# Altium footprint library 电池座.PcbLib: 1 footprints
Each footprint in its own frame and in the unit in brackets; x right, y up, seen from the top. Pads: shape width x height; smd on the part's side, far side on the other; paste and mask are expansions set on the pad; w line width, h text height; cw(c..) or ccw(c..) is an arc to the next point about the centre after c.
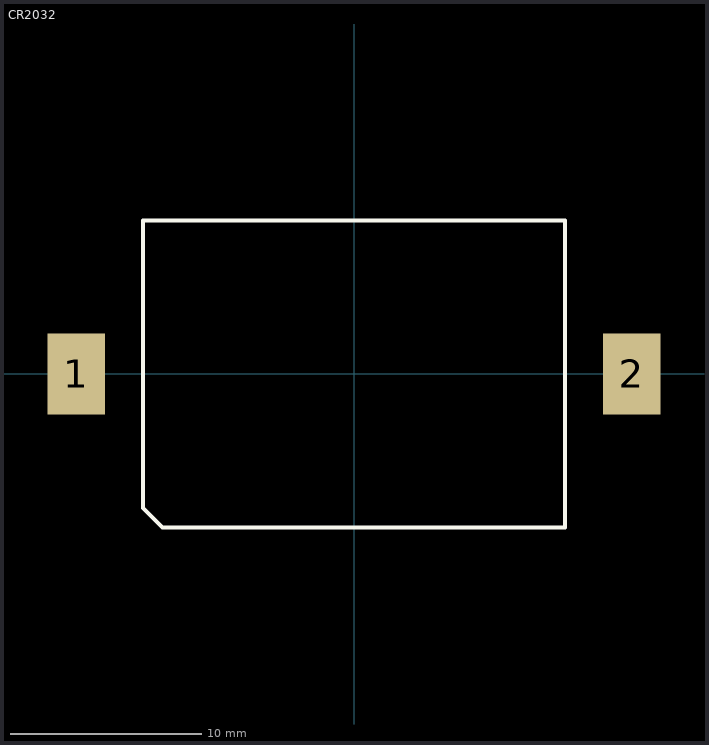
[diagram p0: the footprint, top view; thin cyan lines are the x and y axes]

## CR2032 [mm]
pads (2):
  rect 3x4.2 smd: 1(-14.5,0) 2(14.5,0)
Top Overlay:
  lines w0.2: -11,-7 -11,-7 ; -11,-7 -10,-8 11,-8 11,8 -11,8 -11,-7
3D body "cr2032.sldprt": height 5.5, standoff 0, extent -15.75,-8 15.75,8